# EAGLE library part CD4013/1 (library CD4013)
Check prices <https://pricing.snapeda.com/parts/CD4013BPW/Texas%20Instruments/view-part?ref=eda>
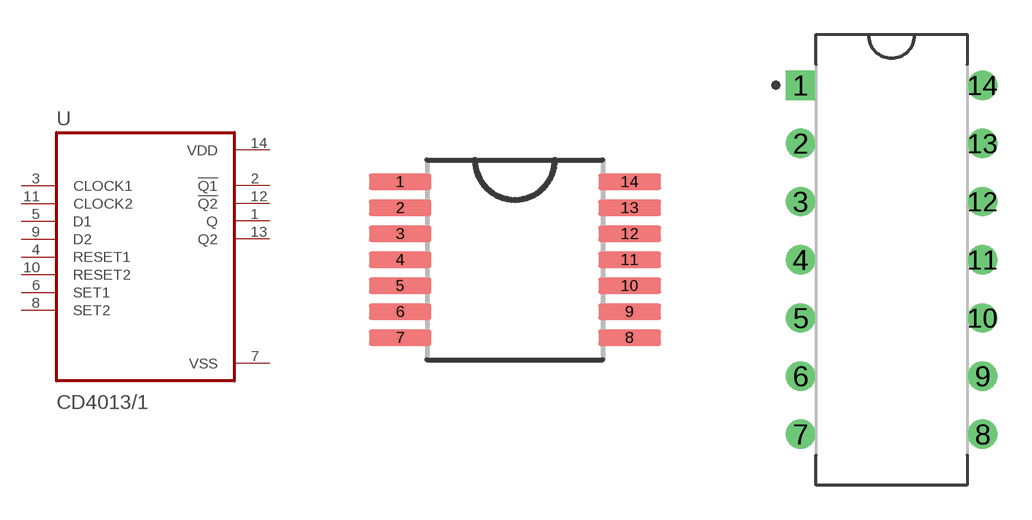
[diagram p0: symbol with the pads of TSSOP-14; footprints TSSOP-14, DIP-14]

Designator prefix U

## CD4013/1 (AVAILABILITY: Good; DESCRIPTION: CMOS Dual D-Type Flip Flop 14-TSSOP -55 to 125; MF: Texas Instruments; MP: CD4013BPW; PACKAGE: TSSOP-14 Texas Instruments; PRICE: None; PURCHASE-URL: https://pricing.snapeda.com/search/part/CD4013BPW/?ref=eda)  [TSSOP-14]
1  Q  out
2  !Q1  out
3  CLOCK1  in
4  RESET1  in
5  D1  in
6  SET1  in
7  VSS  pwr
8  SET2  in
9  D2  in
10  RESET2  in
11  CLOCK2  in
12  !Q2  out
13  Q2  out
14  VDD  pwr

## CD4013/1DIP14  [DIP-14]
Pads as for TSSOP-14

## CD4013/1SOIC-14  [SOIC-14]
Pads as for TSSOP-14

## Footprint TSSOP-14 (pad centres in mm)
smd 1.57 x 0.41: 1 -2.87,1.95; 2 -2.87,1.3; 3 -2.87,0.65; 4 -2.87,0; 5 -2.87,-0.65; 6 -2.87,-1.3; 7 -2.87,-1.95; 8 2.87,-1.95; 9 2.87,-1.3; 10 2.87,-0.65; 11 2.87,0; 12 2.87,0.65; 13 2.87,1.3; 14 2.87,1.95

## Footprint DIP-14 (pad centres in mm)
drill 0.77 pad 1.17 square: 1 -3.97,7.62
drill 0.77 pad 1.17: 2 -3.97,5.08; 3 -3.97,2.54; 4 -3.97,0; 5 -3.97,-2.54; 6 -3.97,-5.08; 7 -3.97,-7.62; 8 3.97,-7.62; 9 3.97,-5.08; 10 3.97,-2.54; 11 3.97,0; 12 3.97,2.54; 13 3.97,5.08; 14 3.97,7.62

## Footprint SOIC-14 (pad centres in mm)
smd 1.97 x 0.6: 1 -2.475,3.81; 2 -2.475,2.54; 3 -2.475,1.27; 4 -2.475,0; 5 -2.475,-1.27; 6 -2.475,-2.54; 7 -2.475,-3.81; 8 2.475,-3.81; 9 2.475,-2.54; 10 2.475,-1.27; 11 2.475,0; 12 2.475,1.27; 13 2.475,2.54; 14 2.475,3.81